# Altium schematic symbol library CURRENT_SENS.SchLib: 1 symbol
Pins are listed as number, name and electrical type; pins without a type are passive.

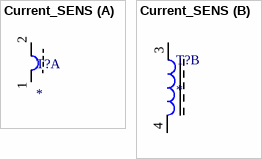
[diagram p0: symbol Current_SENS]

## Current_SENS
designator T?
footprint Current_SENS
footprint Current_Sens_Case
part A pins: 1 3, 2 4
part B pins: 3, 4